# Altium schematic symbol library Pines.SchLib: 4 symbols
Pins are listed as number, name and electrical type; pins without a type are passive.

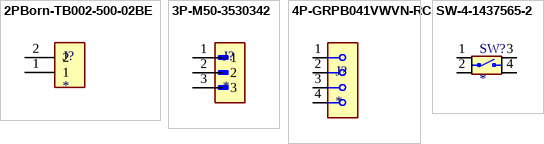
[diagram p0: symbols 2PBorn-TB002-500-02BE to SW-4-1437565-2]

## 2PBorn-TB002-500-02BE
designator J?
2~24 Poles, Screw Type, Horizontal, 5.0 Pitch, 22~12 (AWG), Terminal Block Connector; MF: Same Sky; MP: TB002-500-02BE; SnapEDA_Link: https://www.snapeda.com/parts/TB002-500-02BE/Same+Sky/view-part/?ref=snap; Package: None; Value: *; Check_prices: https://www.snapeda.com/parts/TB002-500-02BE/Same+Sky/view-part/?ref=eda
footprint CUI_TB002-500-02BE
pins: 1, 2

## 3P-M50-3530342
designator J?
1.27mm (0.05) Pitch SIL Vertical Throughboard Pin Header, selective gold + tin, 3 contacts; MF: Harwin; MP: M50-3530342; SnapEDA_Link: https://www.snapeda.com/parts/M50-3530342/Harwin/view-part/?ref=snap; Package: None; Value: *; Check_prices: https://www.snapeda.com/parts/M50-3530342/Harwin/view-part/?ref=eda
footprint HARWIN_M50-3530342
pins: 1, 2, 3

## 4P-GRPB041VWVN-RC
designator J?
Connector Header Through Hole 4 position 0.050 (1.27mm); MF: Sullins; MP: GRPB041VWVN-RC; SnapEDA_Link: https://www.snapeda.com/parts/GRPB041VWVN-RC/Sullins/view-part/?ref=snap; Package: None; Value: *; Check_prices: https://www.snapeda.com/parts/GRPB041VWVN-RC/Sullins/view-part/?ref=eda
footprint HDRV4W40P127_1X4_508X214X400P
pins: 1, 2, 3, 4

## SW-4-1437565-2
designator SW?
Switch Tactile OFF (ON) SPST Round Button Gull Wing 0.05A 24VDC 1VA 9.18N SMD T/R; MF: TE Connectivity; MP: FSM4JSMATR; SnapEDA_Link: https://www.snapeda.com/parts/FSM4JSMATR/TE+Connectivity+ALCOSWITCH+Switches/view-part/?ref=snap; Package: None; Value: *; Check_prices: https://www.snapeda.com/parts/FSM4JSMATR/TE+Connectivity+ALCOSWITCH+Switches/view-part/?ref=eda
footprint SW_4-1437565-2
pins: 1, 2, 3, 4